# Altium schematic symbol library OSHW_LuxonisMaster_20201223.SchLib: 185 symbols (part 2 of 10)
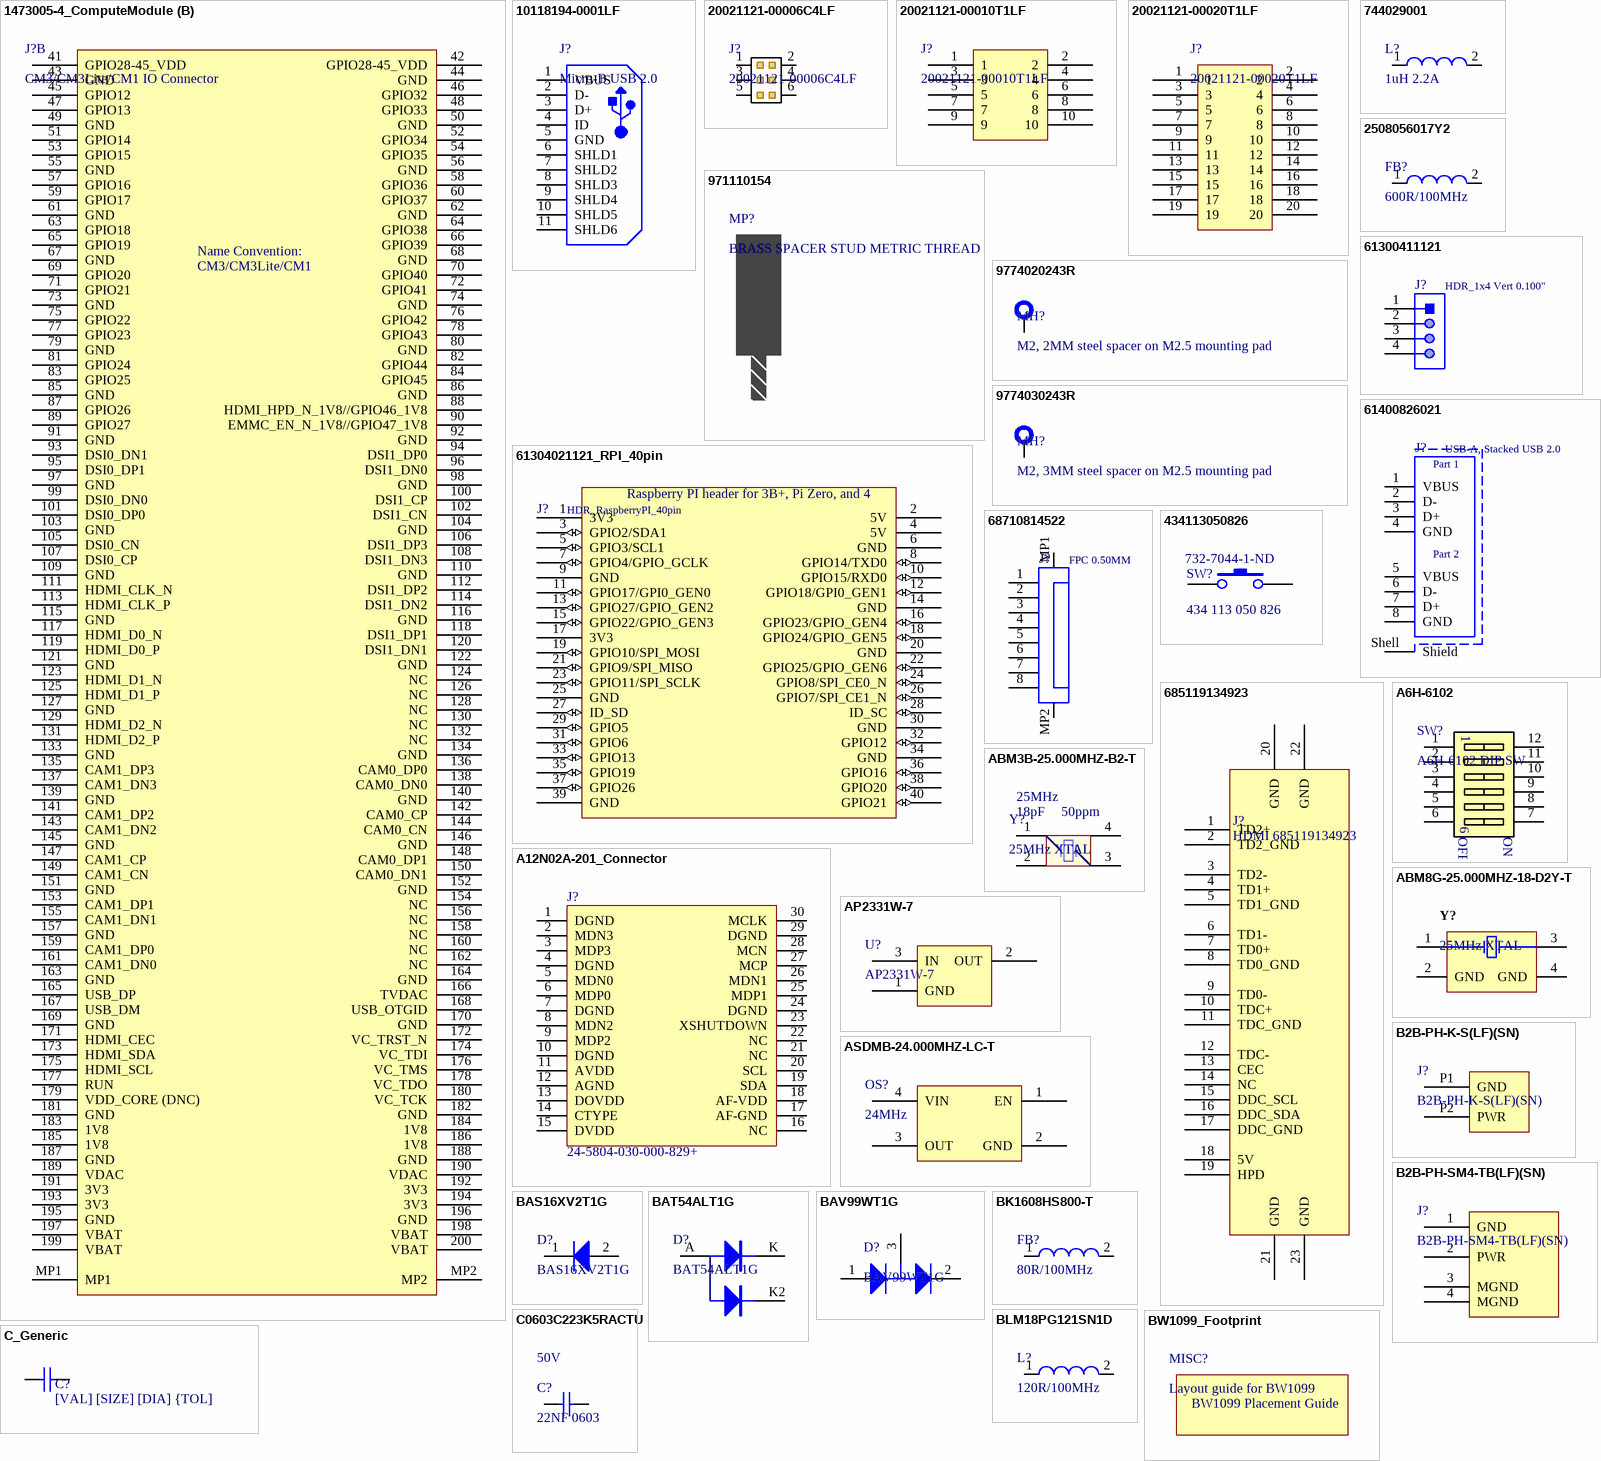
[diagram p8: symbols 1473005-4_ComputeModule to C_Generic]

## 2508056017Y2
designator FB?, comment 600R/100MHz
FERRITE BEAD, 0.1OHM, 2A, 0805, 600R/100MHz; Manufacturer 1: Fair-Rite; Manufacturer Part Number 1: 2508056017Y2; Impedance: 600R; Tolerance: 25%; Resistance: 350mR; DC Resistance (DCR): 100mR; Test Frequency: 100MHz; Supplier 1: Digi-Key; Stock 1: 100491; Pricing 1: 1=0.10000, 10=0.07900, 25=0.07120, 50=0.05240, 100=0.04520, 250=0.03568, 500=0.03014, 1000=0.02538 (USD); RoHS: Yes; Case/Package: 0805; Number of Pins: 2; Case Code (Metric): 2012; Case Code (Imperial): 0805; Min Operating Temperature: -55°C; Max Operating Temperature: 125°C; Package Quantity: 4000; Packaging: Tape and Reel; Max DC Current: 2A; Termination: SMD/SMT; Military Standard: Not; DC Current: 2A; Current Rating: 2A; Frequency: 100MHz; Length: 2mm; Height: 0.9mm; Width: 1.25mm; Depth: 1.25mm; Radiation Hardening: No; REACH SVHC: No SVHC; ComponentLink1URL: https://datasheet.ciiva.com/3854/3802508056017y2-3854245.pdf?src-supplier=Arrow; ComponentLink1Description: https://datasheet.ciiva.com/3854/3802508056017y2-3854245.pdf?src-supplier=Arrow; ComponentLink2URL: https://datasheet.ciiva.com/22735/652149-22735047.pdf?src-supplier=Element14; ComponentLink2Description: https://datasheet.ciiva.com/22735/652149-22735047.pdf?src-supplier=Element14; ComponentLink3URL: https://datasheet.ciiva.com/1127/26143-1127514.pdf?src-supplier=Farnell; ComponentLink3Description: https://datasheet.ciiva.com/1127/26143-1127514.pdf?src-supplier=Farnell; ComponentLink4URL: https://datasheet.ciiva.com/18090/getdatasheetpartid-212640-18090187.pdf?src-supplier=Verical; ComponentLink4Description: https://datasheet.ciiva.com/18090/getdatasheetpartid-212640-18090187.pdf?src-supplier=Verical; ComponentLink5URL: https://datasheet.ciiva.com/7620/26143-7620140.pdf?src-supplier=Element14; ComponentLink5Description: https://datasheet.ciiva.com/7620/26143-7620140.pdf?src-supplier=Element14; Supplier Part Number 1: 1934-1487-1-ND
footprint 2508056017Y2 (2508056017Y2 Chip Inductor, 2-Leads, Body 2.00x1.25mm)
pins: 1, 2

## 9774020243R
designator MH?, comment M2, 2MM steel spacer on M2.5 mounting pad
ROUND STANDOFF M2X0.4 STEEL 2MM; Manufacturer 1: Wurth Electronics; Manufacturer Part Number 1: 9774020243R; Plating: Tin; Threaded/Unthreaded: Threaded; Outside Diameter: 0.171inch; Supplier 1: Digi-Key; Stock 1: 1996; Pricing 1: 1=1.09000, 10=1.03000, 50=0.91800, 100=0.84000, 500=0.78400 (USD); RoHS: Yes; Material: Steel; Length: 0.134inch; REACH SVHC: Unknown; ComponentLink1URL: https://media.digikey.com/pdf/Data%20Sheets/Wurth%20Electronics%20PDFs/WA-SMSx_Performance_Flyer.pdf?src-supplier=Digi-Key; ComponentLink1Description: https://media.digikey.com/pdf/Data%20Sheets/Wurth%20Electronics%20PDFs/WA-SMSx_Performance_Flyer.pdf?src-supplier=Digi-Key; ComponentLink2URL: http://www.mouser.com/ds/2/445/9774020243R-611427.pdf?src-supplier=Mouser; ComponentLink2Description: http://www.mouser.com/ds/2/445/9774020243R-611427.pdf?src-supplier=Mouser; ComponentLink3URL: http://www.farnell.com/datasheets/1960363.pdf?src-supplier=Farnell; ComponentLink3Description: http://www.farnell.com/datasheets/1960363.pdf?src-supplier=Farnell; ComponentLink4URL: http://www.farnell.com/datasheets/1960363.pdf?src-supplier=Element14; ComponentLink4Description: http://www.farnell.com/datasheets/1960363.pdf?src-supplier=Element14; Supplier 2: Mouser; Supplier 3: Farnell; Supplier Part Number 1: 732-7073-1-ND; Supplier Part Number 2: 710-9774020243R; Supplier Part Number 3: 2497594
footprint 9774020243R w/ bottom pad (STANDOFF_M2X0.4_2MM has bottom pad)
pins: 1

## 9774030243R
designator MH?, comment M2, 3MM steel spacer on M2.5 mounting pad
MP ROUND STANDOFF M2X0.4 STEEL 3MM; Manufacturer 1: Wurth Electronics; Manufacturer Part Number 1: 9774030243R; Plating: Tin; Threaded/Unthreaded: Threaded; Outside Diameter: 0.171inch; Supplier 1: Digi-Key; Stock 1: 20568; Pricing 1: 1=0.95000, 10=0.91800, 50=0.79500, 100=0.73900 (USD); RoHS: Yes; Material: Steel; Length: 0.173inch; REACH SVHC: Unknown; ComponentLink1URL: http://www.mouser.com/ds/2/445/9774030243R-611455.pdf?src-supplier=Mouser; ComponentLink1Description: http://www.mouser.com/ds/2/445/9774030243R-611455.pdf?src-supplier=Mouser; ComponentLink2URL: http://www.farnell.com/datasheets/1960368.pdf?src-supplier=Farnell; ComponentLink2Description: http://www.farnell.com/datasheets/1960368.pdf?src-supplier=Farnell; ComponentLink3URL: https://katalog.we-online.de/em/datasheet/9774030243R.pdf?src-supplier=Digi-Key; ComponentLink3Description: https://katalog.we-online.de/em/datasheet/9774030243R.pdf?src-supplier=Digi-Key; ComponentLink4URL: http://www.farnell.com/datasheets/1960368.pdf?src-supplier=Newark; ComponentLink4Description: http://www.farnell.com/datasheets/1960368.pdf?src-supplier=Newark; ComponentLink5URL: http://www.farnell.com/datasheets/1960368.pdf?src-supplier=Element14; ComponentLink5Description: http://www.farnell.com/datasheets/1960368.pdf?src-supplier=Element14; Supplier Part Number 1: 732-7085-1-ND; Supplier 2: Mouser; Supplier Part Number 2: 710-9774030243R; Supplier 3: Element14; Supplier Part Number 3: 2497599
footprint 9774030243R (STANDOFF_M2X0.4_3MM)
footprint 9774030243R w/ bottom pad (STANDOFF_M2X0.4_3MM has bottom pad)
pins: 1

## 61300411121
designator J?, comment HDR_1x4 Vert 0.100"
CONN HEADER VERT 4POS 2.54MM  Connector Header Through Hole 4 position 0.100" (2.54mm); Manufacturer 1: Wurth Electronics; Manufacturer Part Number 1: 61300411121; Number of Positions: 4; Gender: Male; Connector Type: Male Pin; Pitch: 0.1inch; Supplier 1: Digi-Key; Stock 1: 19594; Pricing 1: 1=0.18000, 10=0.15300, 25=0.12720, 50=0.10600, 100=0.09600, 1000=0.08800 (USD); RoHS: Yes; Mount: Through Hole; Contact Plating: Gold; Contact Material: Copper; Color: Black; Number of Rows: 1; Packaging: Bulk; Termination: Solder; Number of Contacts: 4; Contact Mating Length: 0.236inch; REACH SVHC: Unknown; Lead Free: Lead Free; ComponentLink1URL: http://www.farnell.com/cad/1737268.pdf?src-supplier=Element14; ComponentLink1Description: http://www.farnell.com/cad/1737268.pdf?src-supplier=Element14; ComponentLink2URL: https://katalog.we-online.de/em/datasheet/6130xx11121.pdf?src-supplier=Digi-Key; ComponentLink2Description: https://katalog.we-online.de/em/datasheet/6130xx11121.pdf?src-supplier=Digi-Key; Supplier Part Number 1: 732-5317-ND
footprint 61300411121 (Pin Header, pitch 2.54 mm, THT, Vertical, single row, 4p)
pins: 1, 2, 3, 4

## 61304021121_RPI_40pin
designator J?, comment HDR_RaspberryPI_40pin
CONN HEADER VERT 40POS 2.54MM THT HDR_RaspberryPI_40pin; Manufacturer: Wurth Elektronik; Part Number: 61304021121; Manufacturer 1: Wurth Electronics; Contact Resistance: 20mOhm; Row Number: Dual; Pin Number: 40; Withstanding Voltage: 500VAC; Gender: Male; Rated Current: 3A; Working Voltage: 250VAC; Connector Type: Male Pin; Row Spacing: 0.1inch; Operating Temperature: -40to105degC; Manufacturer URL: http://www.we-online.de; Orientation: Vertical; Pitch: 2.54mm; Datasheet URL: https://katalog.we-online.de/em/datasheet/6130xx21121.pdf; Package Reference: 61304021121; Packaging: Bag; Mounting Technology: THT; Publisher: WurthElektronik; Supplier 1: Digi-Key; Manufacturer Part Number 1: 61304021121; Stock 1: 969; Pricing 1: 1=1.89000, 10=1.60200, 25=1.33520, 50=1.11300, 100=1.01200, 500=0.92000 (USD); RoHS: Yes; Mount: Through Hole; Contact Plating: Gold; Contact Material: Copper; Color: Black; Number of Rows: 2; Number of Positions: 40; Termination: Solder; Number of Contacts: 40; Contact Mating Length: 0.236inch; REACH SVHC: Unknown; ComponentLink1URL: http://www.farnell.com/datasheets/1442180.pdf?src-supplier=Farnell; ComponentLink1Description: http://www.farnell.com/datasheets/1442180.pdf?src-supplier=Farnell; ComponentLink2URL: http://www.farnell.com/datasheets/1442180.pdf?src-supplier=Element14; ComponentLink2Description: http://www.farnell.com/datasheets/1442180.pdf?src-supplier=Element14; ComponentLink3URL: http://www.farnell.com/datasheets/1442180.pdf?src-supplier=Newark; ComponentLink3Description: http://www.farnell.com/datasheets/1442180.pdf?src-supplier=Newark; ComponentLink4URL: https://katalog.we-online.de/em/datasheet/6130xx21121.pdf?src-supplier=Digi-Key; ComponentLink4Description: https://katalog.we-online.de/em/datasheet/6130xx21121.pdf?src-supplier=Digi-Key; Supplier Part Number 1: 732-5310-ND; Supplier 2: Newark; Supplier 3: Mouser; Supplier 4: Farnell; Supplier 5: Element14; Supplier Part Number 2: 20X1011; Supplier Part Number 3: 710-61304021121; Supplier Part Number 4: 2356148; Supplier Part Number 5: 2356148
footprint 61304021121 (Pin Header, pitch 2.54 mm, THT, Vertical, dual row, 40p)
pins: 1 3V3, 2 5V, 3 GPIO2/SDA1 (io), 4 5V, 5 GPIO3/SCL1 (io), 6 GND, 7 GPIO4/GPIO_GCLK (io), 8 GPIO14/TXD0 (io), 9 GND, 10 GPIO15/RXD0 (io), 11 GPIO17/GPI0_GEN0 (io), 12 GPIO18/GPI0_GEN1 (io), 13 GPIO27/GPIO_GEN2 (io), 14 GND, 15 GPIO22/GPIO_GEN3 (io), 16 GPIO23/GPIO_GEN4 (io), 17 3V3, 18 GPIO24/GPIO_GEN5 (io), 19 GPIO10/SPI_MOSI (io), 20 GND, 21 GPIO9/SPI_MISO (io), 22 GPIO25/GPIO_GEN6 (io), 23 GPIO11/SPI_SCLK (io), 24 GPIO8/SPI_CE0_N (io), 25 GND, 26 GPIO7/SPI_CE1_N (io), 27 ID_SD (io), 28 ID_SC (io), 29 GPIO5 (io), 30 GND, 31 GPIO6 (io), 32 GPIO12 (io), 33 GPIO13 (io), 34 GND, 35 GPIO19 (io), 36 GPIO16 (io), 37 GPIO26 (io), 38 GPIO20 (io), 39 GND, 40 GPIO21 (io)
text: Raspberry PI header for 3B+, Pi Zero, and 4

## 61400826021
designator J?, comment USB-A, Stacked USB 2.0
CONN RCPT USB2.0 TYPEA STACK R/A USB - A, Stacked USB 2.0 Receptacle Connector 8 Position Through Hole, Right Angle; Manufacturer 1: Wurth Electronics; Manufacturer Part Number 1: 61400826021; Gender: Female; Connector Type: USB,Socket; Number of Ports: 2; Number of Contacts: 8; Current Rating: 1A; Voltage Rating: 30V; Insulation Resistance: 1GR; Supplier 1: Digi-Key; Stock 1: 7536; Pricing 1: 1=1.98000, 10=1.74700, 50=1.64600, 100=1.47800, 250=1.34400 (USD); RoHS: Yes; Mount: Through Hole,Horizontal; Contact Plating: Gold; Contact Material: Copper Alloy; Color: White; Min Operating Temperature: -40°C; Max Operating Temperature: 105°C; Packaging: Tray; Package Quantity: 100; Termination: Solder; Orientation: Vertical; Number of Positions: 8; USB Standard: USB 2.0; Length: 15.34mm; Width: 17mm; REACH SVHC: Unknown; Flammability Rating: UL94 V-0; ComponentLink1URL: https://datasheet.ciiva.com/1098/1442185-1098931.pdf?src-supplier=Element14; ComponentLink1Description: https://datasheet.ciiva.com/1098/1442185-1098931.pdf?src-supplier=Element14; ComponentLink2URL: https://datasheet.ciiva.com/6743/61400826021-6743655.pdf?src-supplier=Newark; ComponentLink2Description: https://datasheet.ciiva.com/6743/61400826021-6743655.pdf?src-supplier=Newark; ComponentLink3URL: https://datasheet.ciiva.com/4598/61400826021-88262-4598792.pdf?src-supplier=Mouser; ComponentLink3Description: https://datasheet.ciiva.com/4598/61400826021-88262-4598792.pdf?src-supplier=Mouser; ComponentLink4URL: https://datasheet.ciiva.com/11731/0900766b81023ab8-11731306.pdf?src-supplier=RSComponents; ComponentLink4Description: https://datasheet.ciiva.com/11731/0900766b81023ab8-11731306.pdf?src-supplier=RSComponents; Supplier Part Number 1: 732-2107-ND
footprint 61400826021 (USB 2.0 Type A Horizontal Dual Stacked)
pins: 1 VBUS, 2 D-, 3 D+, 4 GND, 5 VBUS, 6 D-, 7 D+, 8 GND, Shell Shield
text: Part 1; Part 2

## 68710814522
designator J?, comment FPC 0.50MM
CONN FPC BOTTOM 8POS 0.50MM R/A 8 Position FPC Connector Contacts, Bottom 0.020" (0.50mm) Surface Mount, Right Angle; Manufacturer 1: Wurth Electronics; Manufacturer Part Number 1: 68710814522; Actuator Material: Polymer,Liquid Crystal Polymer; Current Rating: 500mA; Voltage Rating: 50V; Number of Positions: 8; Insulation Resistance: 100MR; Gender: Male; Pitch: 0.5mm; Supplier 1: Digi-Key; Stock 1: 1995; Pricing 1: 1=1.03000, 10=0.99100, 50=0.92300, 100=0.85400, 500=0.78600, 1000=0.71800 (USD); RoHS: Yes; Mount: Surface Mount; Contact Material: Bronze,Tin; Contact Plating: Tin; Housing Material: Liquid Crystal Polymer; Min Operating Temperature: -25°C; Max Operating Temperature: 85°C; Number of Rows: 1; Packaging: Tape and Reel; Package Quantity: 2000; Contact Location: Bottom; Termination: SMD/SMT; Number of Contacts: 8; Orientation: Straight; Length: 10.4mm; Width: 2.1mm; REACH SVHC: Unknown; Flammability Rating: UL94 V-0; ComponentLink1URL: https://datasheet.ciiva.com/670/6871xx14522-670726.pdf?src-supplier=Digi-Key; ComponentLink1Description: https://datasheet.ciiva.com/670/6871xx14522-670726.pdf?src-supplier=Digi-Key; ComponentLink2URL: https://datasheet.ciiva.com/670/6871xx14522-670727.pdf?src-supplier=Digi-Key; ComponentLink2Description: https://datasheet.ciiva.com/670/6871xx14522-670727.pdf?src-supplier=Digi-Key; ComponentLink3URL: https://datasheet.ciiva.com/670/6871xx14522-670728.pdf?src-supplier=Digi-Key; ComponentLink3Description: https://datasheet.ciiva.com/670/6871xx14522-670728.pdf?src-supplier=Digi-Key; ComponentLink4URL: https://datasheet.ciiva.com/14153/6871xx14522-eng-datasheet-14153886.pdf?src-supplier=Distrelec; ComponentLink4Description: https://datasheet.ciiva.com/14153/6871xx14522-eng-datasheet-14153886.pdf?src-supplier=Distrelec; ComponentLink5URL: https://datasheet.ciiva.com/29318/709082-da-01-en-smd-zif-stecker-90grad-kontakte-unten-8-29318044.pdf?src-supplier=Conrad; ComponentLink5Description: https://datasheet.ciiva.com/29318/709082-da-01-en-smd-zif-stecker-90grad-kontakte-unten-8-29318044.pdf?src-supplier=Conrad; Supplier Part Number 1: 732-2011-1-ND
footprint 68710814522 (ZIF Connectors, Horizontal, Bottom Contact, pitch 0.5mm, 8p)
pins: 1, 2, 3, 4, 5, 6, 7, 8, MP1, MP2

## 434113050826
designator SW?, comment 434 113 050 826  Supplier Part Number 1: 732-7044-1-ND
SWITCH TACTILE SPST-NO 0.05A 12V Tactile Switch SPST-NO Top Actuated Surface Mount; MAN: Wurth; DIST: Farnell; DIST PN: 1868029; ICCO PN: M1V00020; MAN PN: 434 113 050 826; Supplier 1: Digi-Key
footprint DTSM32N
pins: 1, 2

## 685119134923
designator J?, comment HDMI 685119134923
CONN RCPT HDMI 19POS SMD R/A; Manufacturer 1: Wurth Electronics; Body Material: Plastic; Gender: Receptacle; Connector Type: HDMI,Socket; Number of Contacts: 19; Manufacturer Part Number 1: 685119134923; Supplier 1: Digi-Key; Stock 1: 3955; Pricing 1: 1=2.36000, 10=2.33000, 50=2.11100, 100=1.89300 (USD); RoHS: Yes; Mount: Surface Mount,Horizontal; Contact Material: Bronze; Color: Black; Package Quantity: 250; Packaging: Tape and Reel; Termination: SMD/SMT; Orientation: Right Angle; Features: Shielded; Number of Positions: 19; Length: 12.15mm; Height: 5.55mm; Width: 15mm; REACH SVHC: Unknown; ComponentLink1URL: https://datasheet.ciiva.com/851/685119134923-851552.pdf?src-supplier=Digi-Key; ComponentLink1Description: https://datasheet.ciiva.com/851/685119134923-851552.pdf?src-supplier=Digi-Key; ComponentLink2URL: https://datasheet.ciiva.com/5053/685119134923-63804-5053219.pdf?src-supplier=Mouser; ComponentLink2Description: https://datasheet.ciiva.com/5053/685119134923-63804-5053219.pdf?src-supplier=Mouser; ComponentLink3URL: https://datasheet.ciiva.com/1095/638362-1095543.pdf?src-supplier=Newark; ComponentLink3Description: https://datasheet.ciiva.com/1095/638362-1095543.pdf?src-supplier=Newark; ComponentLink4URL: https://datasheet.ciiva.com/851/685119134923-851553.pdf?src-supplier=Digi-Key; ComponentLink4Description: https://datasheet.ciiva.com/851/685119134923-851553.pdf?src-supplier=Digi-Key; ComponentLink5URL: https://datasheet.ciiva.com/1094/638362-1094939.pdf?src-supplier=Element14; ComponentLink5Description: https://datasheet.ciiva.com/1094/638362-1094939.pdf?src-supplier=Element14; ComponentLink6URL: https://datasheet.ciiva.com/14118/4257090-eng-datasheet-14118205.pdf?src-supplier=Distrelec; ComponentLink6Description: https://datasheet.ciiva.com/14118/4257090-eng-datasheet-14118205.pdf?src-supplier=Distrelec; Supplier 2: Newark; Supplier 3: Mouser; Supplier Part Number 2: 13T9717; Supplier Part Number 3: 710-685119134923; Supplier Part Number 1: 732-2737-1-ND
footprint 685119134923 (HDMI  Receptacle Connector 19 Position Surface Mount, Right Angle; Through Hole)
pins: 1 TD2+, 2 TD2_GND, 3 TD2-, 4 TD1+, 5 TD1_GND, 6 TD1-, 7 TD0+, 8 TD0_GND, 9 TD0-, 10 TDC+, 11 TDC_GND, 12 TDC-, 13 CEC, 14 NC, 15 DDC_SCL, 16 DDC_SDA, 17 DDC_GND, 18 5V, 19 HPD, 20 GND, 21 GND, 22 GND, 23 GND
2 alternate drawings of the same symbol

## A6H-6102
designator SW?, comment A6H-6102 DIP SW
SWITCH SLIDE DIP SPST 25MA 24V (SEALED); Manufacturer 1: Omron; Mechanical Life: 1000Cycles; Contact Resistance: 200mR; Number of Positions: 6; Actuator Type: Slide (Standard); Number of Poles: 4; Pitch: 0.05inch; Actuator Length: 0mm; Washable: Yes; Supplier 1: Digi-Key; Manufacturer Part Number 1: A6H-6102; Stock 1: 3953; Pricing 1: 1=2.66000, 10=2.57900, 25=2.44640, 50=2.28700, 100=2.23380, 250=1.91468, 500=1.86148, 1000=1.59555, 5000=1.46259 (USD); RoHS: Yes; Mount: Surface Mount; Case/Package: DIP; Weight: 0.12g; Min Operating Temperature: -20°C; Max Operating Temperature: 70°C; Voltage Rating (DC): 24V; Throw Configuration: SPST; Packaging: Rail/Tube; Max Current Rating: 25mA; Termination: Gull Wing; Orientation: Straight; Max Voltage Rating (DC): 24V; Current Rating: 25mA; Package Quantity: 54; Electrical Life: 1000Cycles; Number of Circuits: 6; Length: 0.348inch; Height: 1.55mm; Terminal Pitch: 1.27mm; Depth: 6.7mm; Width: 4.5mm; Radiation Hardening: No; REACH SVHC: Unknown; ComponentLink1URL: https://datasheet.ciiva.com/26883/getdatasheetpartid-744653-26883354.pdf?src-supplier=Verical; ComponentLink1Description: https://datasheet.ciiva.com/26883/getdatasheetpartid-744653-26883354.pdf?src-supplier=Verical; ComponentLink2URL: https://datasheet.ciiva.com/2864/a6h-1110-2864768.pdf?src-supplier=Digi-Key; ComponentLink2Description: https://datasheet.ciiva.com/2864/a6h-1110-2864768.pdf?src-supplier=Digi-Key; ComponentLink3URL: https://datasheet.ciiva.com/1529/611565-1529044.pdf?src-supplier=Element14; ComponentLink3Description: https://datasheet.ciiva.com/1529/611565-1529044.pdf?src-supplier=Element14; ComponentLink4URL: https://datasheet.ciiva.com/16198/a6h-1110-16198863.pdf?src-supplier=Onlinecomponents.com; ComponentLink4Description: https://datasheet.ciiva.com/16198/a6h-1110-16198863.pdf?src-supplier=Onlinecomponents.com; Supplier 2: Mouser; Supplier 3: Farnell; Supplier Part Number 2: 653-A6H-6102; Supplier Part Number 1: SW1117-ND; Supplier Part Number 3: 1829491
footprint A6H-610x (DIP Sw, Std/SealTape Body 8.85x4.50mm, Pitch 1.27mm, IPC High Density)
pins: 1, 2, 3, 4, 5, 6, 7, 8, 9, 10, 11, 12
text: OFF; ON

## A12N02A-201_Connector
designator J?, comment 24-5804-030-000-829+
CONN Series 5804 board to board 0.4mm pitch 30 way connector; Manufacturer 1: Kyocera International Electronic Components; Manufacturer Part Number 1: 245804030000829+; MAN: AVX/KYOCERA; MAN PN: 24-5804-030-000-829+; Supplier 1: Digi-Key; Stock 1: 11469; Pricing 1: 1=1.69000, 10=1.53600, 25=1.44200, 50=1.37940, 100=1.31670, 250=1.19132, 500=1.09726, 1000=0.94050 (USD); RoHS: Yes; ComponentLink1URL: http://global.kyocera.com/prdct/electro/product/pdf/5804.pdf?src-supplier=Digi-Key; ComponentLink1Description: http://global.kyocera.com/prdct/electro/product/pdf/5804.pdf?src-supplier=Digi-Key; Supplier Part Number 1: 478-12013-1-ND
footprint A12N02A-201 (connector: 24-5804-030-000-829+)
footprint A12N02A-201_1MMBRD_MatedModule (connector: 24-5804-030-000-829+ (1.4mm height w/ module mated))
footprint A12N02A-201_1.6mmbrd_MatedModule (connector: 24-5804-030-000-829+ (1.4mm height w/ module mated))
pins: 1 DGND, 2 MDN3, 3 MDP3, 4 DGND, 5 MDN0, 6 MDP0, 7 DGND, 8 MDN2, 9 MDP2, 10 DGND, 11 AVDD, 12 AGND, 13 DOVDD, 14 CTYPE, 15 DVDD, 16 NC, 17 AF-GND, 18 AF-VDD, 19 SDA, 20 SCL, 21 NC, 22 NC, 23 XSHUTDOWN, 24 DGND, 25 MDP1, 26 MDN1, 27 MCP, 28 MCN, 29 DGND, 30 MCLK

## ABM3B-25.000MHZ-B2-T
designator Y?, comment 25MHz XTAL  Frequency Stability: 50ppm  Load Capacitance: 18pF  Frequency: 25MHz
CRYSTAL 25.0000MHZ 18PF SMD; Manufacturer 1: Abracon; Manufacturer Part Number 1: ABM3B-25.000MHZ-B2-T; Frequency Tolerance: 20ppm; ESR (Equivalent Series Resistance): 50R; Insulation Resistance: 500MR; RoHS: Yes; Case/Package: CSMD; Number of Pins: 4; Min Operating Temperature: -20°C; Max Operating Temperature: 70°C; Packaging: Tape and Reel; Package Quantity: 1000; Tolerance: 20ppm; Termination: SMD/SMT; Composition: Ceramic; Series Resistance: 50R; Accuracy: 20ppm; Length: 5mm; Height: 0.043inch; Width: 0.126inch; Depth: 3.2mm; Radiation Hardening: No; Lead Free: Lead Free; REACH SVHC: No SVHC; ComponentLink1URL: https://datasheet.ciiva.com/15116/getdatasheetpartid-723823-15116858.pdf?src-supplier=Verical; ComponentLink1Description: https://datasheet.ciiva.com/15116/getdatasheetpartid-723823-15116858.pdf?src-supplier=Verical; ComponentLink2URL: https://datasheet.ciiva.com/855/abm3b-855689.pdf?src-supplier=Digi-Key; ComponentLink2Description: https://datasheet.ciiva.com/855/abm3b-855689.pdf?src-supplier=Digi-Key; ComponentLink3URL: https://datasheet.ciiva.com/22735/1883675-22735145.pdf?src-supplier=Element14; ComponentLink3Description: https://datasheet.ciiva.com/22735/1883675-22735145.pdf?src-supplier=Element14; ComponentLink4URL: https://datasheet.ciiva.com/855/abm3b-855690.pdf?src-supplier=Digi-Key; ComponentLink4Description: https://datasheet.ciiva.com/855/abm3b-855690.pdf?src-supplier=Digi-Key; ComponentLink5URL: https://datasheet.ciiva.com/855/abm3b-855691.pdf?src-supplier=Digi-Key; ComponentLink5Description: https://datasheet.ciiva.com/855/abm3b-855691.pdf?src-supplier=Digi-Key; ComponentLink6URL: https://datasheet.ciiva.com/3174/abm3b-3174285.pdf?src-supplier=Avnet; ComponentLink6Description: https://datasheet.ciiva.com/3174/abm3b-3174285.pdf?src-supplier=Avnet; ComponentLink7URL: https://datasheet.ciiva.com/4945/abm3b-39910-4945502.pdf?src-supplier=Mouser; ComponentLink7Description: https://datasheet.ciiva.com/4945/abm3b-39910-4945502.pdf?src-supplier=Mouser; ComponentLink8URL: https://datasheet.ciiva.com/7998/1883675-7998606.pdf?src-supplier=Element14; ComponentLink8Description: https://datasheet.ciiva.com/7998/1883675-7998606.pdf?src-supplier=Element14; ComponentLink9URL: https://datasheet.ciiva.com/16208/abm3b-16208639.pdf?src-supplier=Future+Electronics; ComponentLink9Description: https://datasheet.ciiva.com/16208/abm3b-16208639.pdf?src-supplier=Future+Electronics; Supplier 1: Digi-Key; Stock 1: 62537; Pricing 1: 1=1.09000, 10=0.96100, 50=0.89880, 100=0.79420, 500=0.75240 (USD); Supplier Part Number 1: 535-9128-1-ND
footprint Q2520
pins: 1 OSC1, 2, 3 OSC3, 4

## ABM8G-25.000MHZ-18-D2Y-T
designator Y?, comment 25MHz XTAL
CRYSTAL 25.0000MHZ 18PF SMD; Manufacturer 1: Abracon; Manufacturer Part Number 1: ABM8G-25.000MHZ-18-D2Y-T; ESR (Equivalent Series Resistance): 60R; Frequency Tolerance: 20ppm; Frequency Stability: 30ppm; Supplier 1: Digi-Key; Stock 1: 67771; Pricing 1: 1=0.65000, 10=0.54400, 50=0.49000, 100=0.43560, 500=0.41378 (USD); RoHS: Yes; Mount: Surface Mount; Case/Package: CSMD; Number of Pins: 4; Min Operating Temperature: -40°C; Max Operating Temperature: 85°C; Frequency: 25MHz; Load Capacitance: 18pF; Packaging: Tape and Reel; Package Quantity: 1000; Tolerance: 20ppm; Termination: SMD/SMT; Series Resistance: 60R; Length: 3.2mm; Height: 0.039inch; Width: 2.5mm; Depth: 2.5mm; Radiation Hardening: No; REACH SVHC: Unknown; Lead Free: Lead Free; ComponentLink1URL: https://datasheet.ciiva.com/15116/getdatasheetpartid-719795-15116706.pdf?src-supplier=Verical; ComponentLink1Description: https://datasheet.ciiva.com/15116/getdatasheetpartid-719795-15116706.pdf?src-supplier=Verical; ComponentLink2URL: https://datasheet.ciiva.com/28508/1883677-28508583.pdf?src-supplier=Element14; ComponentLink2Description: https://datasheet.ciiva.com/28508/1883677-28508583.pdf?src-supplier=Element14; ComponentLink3URL: https://datasheet.ciiva.com/860/abm8g-860745.pdf?src-supplier=Digi-Key; ComponentLink3Description: https://datasheet.ciiva.com/860/abm8g-860745.pdf?src-supplier=Digi-Key; ComponentLink4URL: https://datasheet.ciiva.com/860/abm8g-860746.pdf?src-supplier=Digi-Key; ComponentLink4Description: https://datasheet.ciiva.com/860/abm8g-860746.pdf?src-supplier=Digi-Key; ComponentLink5URL: https://datasheet.ciiva.com/7998/abm8-7998634.pdf?src-supplier=Element14; ComponentLink5Description: https://datasheet.ciiva.com/7998/abm8-7998634.pdf?src-supplier=Element14; ComponentLink6URL: https://datasheet.ciiva.com/860/abm8g-860747.pdf?src-supplier=Digi-Key; ComponentLink6Description: https://datasheet.ciiva.com/860/abm8g-860747.pdf?src-supplier=Digi-Key; ComponentLink7URL: https://datasheet.ciiva.com/3176/abm8g-3176077.pdf?src-supplier=Avnet; ComponentLink7Description: https://datasheet.ciiva.com/3176/abm8g-3176077.pdf?src-supplier=Avnet; ComponentLink8URL: https://datasheet.ciiva.com/1357/1883677-1357279.pdf?src-supplier=Element14; ComponentLink8Description: https://datasheet.ciiva.com/1357/1883677-1357279.pdf?src-supplier=Element14; Supplier Part Number 1: 535-10275-1-ND
pins: 1 X1, 2 GND (power), 3 X2, 4 GND (power)

## AP2331W-7
designator U?
LOAD SWITCH SC59; Manufacturer 1: Diodes; Number of Outputs: 1; Output Current: 200mA; Max Supply Voltage: 5.2V; Min Supply Voltage: 2.7V; Interface: On/Off; On-State Resistance: 350mR; Turn-On Delay Time: 700us; Fault Protection: Over Temperature,Reverse Current; Output Configuration: High Side; Supplier 1: Digi-Key; Manufacturer Part Number 1: AP2331W-7; Stock 1: 5467; Pricing 1: 1=0.40000, 10=0.34100, 100=0.23660, 500=0.19110, 1000=0.14105 (USD); RoHS: Yes; Mount: Surface Mount; Case/Package: TO-236-3; Number of Pins: 59; Min Operating Temperature: -40°C; Max Operating Temperature: 85°C; Package Quantity: 3000; Packaging: Tape and Reel; Max Output Current: 200mA; Voltage: 5.2V; Current: 200mA; Length: 3.1mm; Height: 1.3mm; Width: 1.7mm; Radiation Hardening: No; REACH SVHC: No SVHC; ComponentLink1URL: https://datasheet.ciiva.com/18567/ap2331-18567929.pdf?src-supplier=Digi-Key; ComponentLink1Description: https://datasheet.ciiva.com/18567/ap2331-18567929.pdf?src-supplier=Digi-Key; ComponentLink2URL: https://datasheet.ciiva.com/18567/ap2331-18567928.pdf?src-supplier=Digi-Key; ComponentLink2Description: https://datasheet.ciiva.com/18567/ap2331-18567928.pdf?src-supplier=Digi-Key; ComponentLink3URL: https://datasheet.ciiva.com/18567/ap2331-18567930.pdf?src-supplier=Digi-Key; ComponentLink3Description: https://datasheet.ciiva.com/18567/ap2331-18567930.pdf?src-supplier=Digi-Key; Supplier 2: Mouser; Supplier 3: Arrow; Supplier Part Number 2: 621-AP2331W-7; Supplier Part Number 1: AP2331W-7DICT-ND; Supplier Part Number 3: AP2331W-7
footprint AP2331W-7
pins: 1 GND, 2 OUT, 3 IN

## ASDMB-24.000MHZ-LC-T
designator OS?, comment 24MHz
MEMS OSC XO 24.0000MHZ LVCMOS 24MHz XO (Standard) LVCMOS Oscillator 1.8V ~ 3.3V Standby (Power Down) 4-SMD, No Lead; Manufacturer 1: Abracon; Manufacturer Part Number 1: ASDMB-24.000MHZ-LC-T; Load Capacitance: 15pF; Max Supply Voltage: 4V; Min Supply Voltage: -300mV; Max Supply Current: 16mA; Frequency Stability: 50ppm; RoHS: Yes; Mount: Surface Mount; Case/Package: SMD/SMT; Number of Pins: 4; Min Operating Temperature: -40°C; Max Operating Temperature: 85°C; Frequency: 24MHz; Packaging: Tape and Reel; Operating Supply Voltage: 3.3V; Termination: SMD/SMT; Length: 0.098inch; Height: 0.035inch; Width: 0.079inch; Radiation Hardening: No; Lead Free: Lead Free; REACH SVHC: No SVHC; ComponentLink1URL: https://datasheet.ciiva.com/868/asdmb-868258.pdf?src-supplier=Digi-Key; ComponentLink1Description: https://datasheet.ciiva.com/868/asdmb-868258.pdf?src-supplier=Digi-Key; ComponentLink2URL: https://datasheet.ciiva.com/868/asdmb-868259.pdf?src-supplier=Digi-Key; ComponentLink2Description: https://datasheet.ciiva.com/868/asdmb-868259.pdf?src-supplier=Digi-Key; ComponentLink3URL: https://datasheet.ciiva.com/868/asdmb-868260.pdf?src-supplier=Digi-Key; ComponentLink3Description: https://datasheet.ciiva.com/868/asdmb-868260.pdf?src-supplier=Digi-Key; ComponentLink4URL: https://datasheet.ciiva.com/3178/asdmb-3178841.pdf?src-supplier=Avnet; ComponentLink4Description: https://datasheet.ciiva.com/3178/asdmb-3178841.pdf?src-supplier=Avnet; Supplier 1: Digi-Key; Stock 1: 165072; Pricing 1: 1=1.28000, 10=1.13400, 50=1.05960, 100=0.93640, 500=0.88712 (USD); Supplier Part Number 1: 535-11728-1-ND; Supplier 2: Mouser; Supplier 3: Newark; Supplier Part Number 2: 815-ASDMB-24MHZ-LC; Supplier Part Number 3: 95AC7932
footprint ASDMB-24.000MHZ-LC-T
pins: 1 EN, 2 GND, 3 OUT, 4 VIN

## B2B-PH-K-S(LF)(SN)
designator J?
CONN HEADER VERT 2POS 2MM; Manufacturer 1: JST; Number of Positions: 2; Connector Type: Male Pin; Current Rating: 2A; Gender: Male; Contact Resistance: 20mR; Insulation Resistance: 1MR; Voltage Rating: 100V; Supplier 1: Digi-Key; Manufacturer Part Number 1: B2B-PH-K-S(LF)(SN); Stock 1: 216199; Pricing 1: 1 = 0.170000, 10 = 0.162000, 100 = 0.100200, 500 = 0.082880, 1000 = 0.072520, 5000 = 0.062160, 10000 = 0.060440 (USD); RoHS: Yes; Mount: Through Hole; Number of Pins: 2; Contact Plating: Tin; Color: Natural; Contact Material: Brass; Housing Material: Polyamide; Housing Color: White; Min Operating Temperature: -25°C; Max Operating Temperature: 85°C; Number of Rows: 1; Packaging: Bulk; Termination: Solder; Fastening Type: Detent; Number of Poles: 2; Number of Contacts: 2; Orientation: Straight; Max Current Rating: 2A; Max Voltage Rating (AC): 100V; Voltage Rating (AC): 100V; Working Voltage: 100V; Max Voltage Rating (DC): 100V; Length: 5.9mm; Height: 9.4mm; Pitch: 2mm; Width: 4.5mm; Contact Mating Length: 0.13inch; Depth: 4.5mm; Lead Pitch: 2mm; Lead Free: Lead Free; REACH SVHC: No SVHC; ComponentLink1URL: https://datasheet.ciiva.com/6747/80560-6747392.pdf?src-supplier=Newark; ComponentLink1Description: https://datasheet.ciiva.com/6747/80560-6747392.pdf?src-supplier=Newark; ComponentLink2URL: https://datasheet.ciiva.com/11746/0900766b8082f551-11746676.pdf?src-supplier=RSComponents; ComponentLink2Description: https://datasheet.ciiva.com/11746/0900766b8082f551-11746676.pdf?src-supplier=RSComponents; ComponentLink3URL: https://datasheet.ciiva.com/8052/80560-8052022.pdf?src-supplier=Element14; ComponentLink3Description: https://datasheet.ciiva.com/8052/80560-8052022.pdf?src-supplier=Element14; ComponentLink4URL: https://datasheet.ciiva.com/712/eph-712442.pdf?src-supplier=Digi-Key; ComponentLink4Description: https://datasheet.ciiva.com/712/eph-712442.pdf?src-supplier=Digi-Key; ComponentLink5URL: https://datasheet.ciiva.com/16422/b2b-ph-k-slfsn-16422715.pdf?src-supplier=Future+Electronics; ComponentLink5Description: https://datasheet.ciiva.com/16422/b2b-ph-k-slfsn-16422715.pdf?src-supplier=Future+Electronics; Supplier Part Number 1: 455-1704-ND
footprint B2B-PH-K-S(LF)(SN) (3.4mm pins, 6mm housing)
pins: P1 GND, P2 PWR

## B2B-PH-SM4-TB(LF)(SN)
designator J?
CONN HEADER SMD 2POS 2MM; Manufacturer 1: JST; Number of Positions: 2; Connector Type: Male Pin; Current Rating: 2A; Gender: Male; Contact Resistance: 20mR; Insulation Resistance: 1GR; Voltage Rating: 100V; RoHS: Yes; Mount: Surface Mount; Contact Plating: Tin; Color: Natural; Contact Material: Copper Alloy; Housing Material: Polyamide; Housing Color: Beige; Min Operating Temperature: -25°C; Max Operating Temperature: 85°C; Number of Rows: 1; Packaging: Tape and Reel; Termination: Solder; Fastening Type: Detent; Number of Poles: 2; Number of Contacts: 2; Orientation: Straight; Max Current Rating: 2A; Max Voltage Rating (AC): 100V; Voltage Rating (AC): 100V; Working Voltage: 100V; Length: 7.95mm; Height: 9.4mm; Pitch: 2mm; Width: 5.5mm; Contact Mating Length: 0.13inch; Depth: 5mm; Lead Pitch: 2mm; Lead Free: Lead Free; REACH SVHC: No SVHC; Flammability Rating: UL94 V-0; ComponentLink1URL: https://datasheet.ciiva.com/11748/0900766b80ddea81-11748001.pdf?src-supplier=RSComponents; ComponentLink1Description: https://datasheet.ciiva.com/11748/0900766b80ddea81-11748001.pdf?src-supplier=RSComponents; ComponentLink2URL: https://datasheet.ciiva.com/16216/b2b-ph-sm4-tblfsn-16216102.pdf?src-supplier=Future+Electronics; ComponentLink2Description: https://datasheet.ciiva.com/16216/b2b-ph-sm4-tblfsn-16216102.pdf?src-supplier=Future+Electronics; ComponentLink3URL: https://datasheet.ciiva.com/8052/80567-8052023.pdf?src-supplier=Element14; ComponentLink3Description: https://datasheet.ciiva.com/8052/80567-8052023.pdf?src-supplier=Element14; ComponentLink4URL: https://datasheet.ciiva.com/712/eph-712504.pdf?src-supplier=Digi-Key; ComponentLink4Description: https://datasheet.ciiva.com/712/eph-712504.pdf?src-supplier=Digi-Key; ComponentLink5URL: https://datasheet.ciiva.com/712/eph-712505.pdf?src-supplier=Digi-Key; ComponentLink5Description: https://datasheet.ciiva.com/712/eph-712505.pdf?src-supplier=Digi-Key; ComponentLink6URL: https://datasheet.ciiva.com/712/eph-712506.pdf?src-supplier=Digi-Key; ComponentLink6Description: https://datasheet.ciiva.com/712/eph-712506.pdf?src-supplier=Digi-Key; Supplier 1: Arrow; Manufacturer Part Number 1: B2B-PH-SM4-TB(LF)(SN); Stock 1: 156000; Pricing 1: 1000=0.23830, 2000=0.22960, 3000=0.21300, 5000=0.20380, 10000=0.18780, 25000=0.18310, 1=0.44520 (USD); Supplier Part Number 1: B2B-PH-SM4-TB (LF)(SN)
footprint *JST_B2B-PH-SM4-TB(LF)(SN) (Footprint not found)
pins: 1 GND, 2 PWR, 3 MGND, 4 MGND

## BAS16XV2T1G
designator D?
DIODE GEN PURP 75V 200MA SOD523; Manufacturer 1: ON Semiconductor; Peak Reverse Current: 1uA; Reverse Recovery Time: 6ns; Power Dissipation: 200mW; Element Configuration: Single; Max Surge Current: 500mA; Forward Voltage: 1.25V; Polarity: Standard; Capacitance: 2pF; Supplier 1: Digi-Key; Manufacturer Part Number 1: BAS16XV2T1G; Stock 1: 246371; Pricing 1: 1=0.13000, 10=0.11600, 100=0.06330, 500=0.03898, 1000=0.02658 (USD); RoHS: Yes; Case/Package: SOD-523-2; Number of Pins: 2; Contact Plating: Tin,Matte; Min Operating Temperature: -55°C; Max Operating Temperature: 150°C; Package Quantity: 1; Forward Current: 200mA; Packaging: Tape and Reel; Average Rectified Current: 200mA; Max Repetitive Reverse Voltage (Vrrm): 75V; Max Reverse Voltage (DC): 75V; Recovery Time: 6ns; Max Reverse Leakage Current: 1uA; Peak Non-Repetitive Surge Current: 500mA; Max Forward Surge Current (Ifsm): 500mA; Output Current: 200mA; Length: 1.3mm; Height: 0.7mm; Width: 0.9mm; Radiation Hardening: No; Lead Free: Lead Free; Halogen Free: Halogen Free; REACH SVHC: No SVHC; ComponentLink1URL: https://datasheet.ciiva.com/915/bas16xv2t1-d-915360.pdf?src-supplier=Digi-Key; ComponentLink1Description: https://datasheet.ciiva.com/915/bas16xv2t1-d-915360.pdf?src-supplier=Digi-Key; ComponentLink2URL: https://datasheet.ciiva.com/4434/bas16xv2t1-d-103464-4434928.pdf?src-supplier=Mouser; ComponentLink2Description: https://datasheet.ciiva.com/4434/bas16xv2t1-d-103464-4434928.pdf?src-supplier=Mouser; ComponentLink3URL: https://datasheet.ciiva.com/22663/1708232-22663646.pdf?src-supplier=Element14; ComponentLink3Description: https://datasheet.ciiva.com/22663/1708232-22663646.pdf?src-supplier=Element14; ComponentLink4URL: https://datasheet.ciiva.com/36525/806485-36525908.pdf?src-supplier=Jameco; ComponentLink4Description: https://datasheet.ciiva.com/36525/806485-36525908.pdf?src-supplier=Jameco; ComponentLink5URL: https://datasheet.ciiva.com/15144/getdatasheetpartid-84399-15144565.pdf?src-supplier=Verical; ComponentLink5Description: https://datasheet.ciiva.com/15144/getdatasheetpartid-84399-15144565.pdf?src-supplier=Verical; ComponentLink6URL: https://datasheet.ciiva.com/16475/bas16xv2t1-d-16475723.pdf?src-supplier=Avnet+Asia; ComponentLink6Description: https://datasheet.ciiva.com/16475/bas16xv2t1-d-16475723.pdf?src-supplier=Avnet+Asia; ComponentLink7URL: https://datasheet.ciiva.com/25930/bas16xv2t1-d-25930683.pdf?src-supplier=Avnet+Europe; ComponentLink7Description: https://datasheet.ciiva.com/25930/bas16xv2t1-d-25930683.pdf?src-supplier=Avnet+Europe; Supplier 2: Digi-Key; Manufacturer 2: ON Semiconductor; Manufacturer Part Number 2: BAS16XV2T1G; Stock 2: 246371; Pricing 2: 1=0.13000, 10=0.11600, 100=0.06330, 500=0.03898, 1000=0.02658 (USD); Supplier Part Number 1: BAS16XV2T1GOSCT-ND; Supplier Part Number 2: BAS16XV2T1GOSDKR-ND
footprint BAS16XV2T1G (SOD, 2-Leads, Body 1.2x0.8mm)
pins: 1 K, 2 A

## BAT54ALT1G
designator D?
DIODE ARRAY SCHOTTKY 30V SOT23-3; Manufacturer 1: ON Semiconductor; Forward Current: 200mA; Element Configuration: Common Anode; Forward Voltage: 800mV; Reverse Recovery Time: 5ns; Max Forward Surge Current (Ifsm): 600mA; Max Power Dissipation: 225mW; Peak Reverse Current: 2uA; Current Rating: 10A; Capacitance: 10pF; Supplier 1: Digi-Key; Manufacturer Part Number 1: BAT54ALT1G; Stock 1: 204103; Pricing 1: 1=0.16000, 10=0.14500, 100=0.07880, 500=0.04848, 1000=0.03306 (USD); RoHS: Yes; Case/Package: SOT-23-3; Number of Pins: 3; Contact Plating: Tin,Matte; Min Operating Temperature: -55°C; Max Operating Temperature: 150°C; Max Repetitive Reverse Voltage (Vrrm): 30V; Package Quantity: 3000; Packaging: Tape and Reel; Average Rectified Current: 200mA; Peak Non-Repetitive Surge Current: 600mA; Max Reverse Voltage (DC): 30V; Max Surge Current: 600mA; Recovery Time: 5ns; Max Reverse Leakage Current: 2uA; Power Dissipation: 225mW; Termination: SMD/SMT; Voltage Rating (DC): 30V; Length: 0.119inch; Height: 0.04inch; Width: 0.055inch; Radiation Hardening: No; Lead Free: Lead Free; Halogen Free: Halogen Free; REACH SVHC: No SVHC; ComponentLink1URL: https://datasheet.ciiva.com/4715/bat54alt1-d-104508-4715041.pdf?src-supplier=Mouser; ComponentLink1Description: https://datasheet.ciiva.com/4715/bat54alt1-d-104508-4715041.pdf?src-supplier=Mouser; ComponentLink2URL: https://datasheet.ciiva.com/1180/bat54alt1-d-1180242.pdf?src-supplier=Element14; ComponentLink2Description: https://datasheet.ciiva.com/1180/bat54alt1-d-1180242.pdf?src-supplier=Element14; ComponentLink3URL: https://datasheet.ciiva.com/1180/1911586-1180243.pdf?src-supplier=Element14; ComponentLink3Description: https://datasheet.ciiva.com/1180/1911586-1180243.pdf?src-supplier=Element14; ComponentLink4URL: https://datasheet.ciiva.com/14560/70100362-14560727.pdf?src-supplier=Allied+Electronics; ComponentLink4Description: https://datasheet.ciiva.com/14560/70100362-14560727.pdf?src-supplier=Allied+Electronics; ComponentLink5URL: https://datasheet.ciiva.com/8299/bat54alt1-d-8299643.pdf?src-supplier=Avnet; ComponentLink5Description: https://datasheet.ciiva.com/8299/bat54alt1-d-8299643.pdf?src-supplier=Avnet; ComponentLink6URL: https://datasheet.ciiva.com/905/bat54alt1-d-905836.pdf?src-supplier=Digi-Key; ComponentLink6Description: https://datasheet.ciiva.com/905/bat54alt1-d-905836.pdf?src-supplier=Digi-Key; ComponentLink7URL: https://datasheet.ciiva.com/905/bat54alt1-d-905837.pdf?src-supplier=Digi-Key; ComponentLink7Description: https://datasheet.ciiva.com/905/bat54alt1-d-905837.pdf?src-supplier=Digi-Key; ComponentLink8URL: https://datasheet.ciiva.com/905/bat54alt1-d-905838.pdf?src-supplier=Digi-Key; ComponentLink8Description: https://datasheet.ciiva.com/905/bat54alt1-d-905838.pdf?src-supplier=Digi-Key; ComponentLink9URL: https://datasheet.ciiva.com/16387/bat54alt1-d-16387375.pdf?src-supplier=Future+Electronics; ComponentLink9Description: https://datasheet.ciiva.com/16387/bat54alt1-d-16387375.pdf?src-supplier=Future+Electronics; ComponentLink10URL: https://datasheet.ciiva.com/25950/bat54alt1-d-25950143.pdf?src-supplier=Avnet+Europe; ComponentLink10Description: https://datasheet.ciiva.com/25950/bat54alt1-d-25950143.pdf?src-supplier=Avnet+Europe; Supplier 2: Mouser; Supplier 3: Newark; Supplier Part Number 1: BAT54ALT1GOSCT-ND; Supplier Part Number 2: 863-BAT54ALT1G; Supplier Part Number 3: 45J0558
footprint BAT54ALT1G (SOT-23 (TO-236))
pins: A, K, K2

## BAV99WT1G
designator D?
DIODE ARRAY GP 100V 215MA SC70-3 Diode Array 1 Pair Series Connection Standard 100V 215mA (DC) Surface Mount SC-70, SOT-323; Manufacturer: On Semiconductor; Manufacturer 1: ON Semiconductor / Fairchild; Configuration: Dual Series; trr Max (ns): 6; Packing: Tape and Reel; IF Max (A): 0.215; Peak Reverse Current: 2.5uA; Max Repetitive Reverse Voltage (Vrrm): 70V; Peak Non-Repetitive Surge Current: 2A; Forward Current: 200mA; Forward Voltage: 1V; Reverse Recovery Time: 6ns; Max Reverse Leakage Current: 2.4uA; Element Configuration: Common Cathode; Power Dissipation: 300mW; ComponentLink1Description: Manufacturer URL; ComponentLink1URL: http://www.onsemi.com/; ComponentLink2Description: Datasheet; PackageDescription: 3-Pin Small Outline Transistor, Body 2 x 1.25 mm, Pitch 0.65 mm; PackageReference: SOT-323-3-419-04; ComponentLink3URL: http://www.onsemi.com/pub_link/Collateral/419-04.PDF; ComponentLink3Description: Package Specification; DatasheetVersion: Rev. 7; RoHS: Yes; ComponentLink2URL: http://www.onsemi.cn/pub_link/Collateral/BAV99WT1-D.PDF; Mounting Technology: Surface Mount; PartNumber: BAV99WT1G; PackageVersion: Rev. N, 11/2008; Supplier 1: Digi-Key; Manufacturer Part Number 1: BAV99WT1G; Stock 1: 463154; Pricing 1: 1=0.15000, 10=0.13700, 100=0.07440, 500=0.04576, 1000=0.03120 (USD); Mount: Surface Mount; Case/Package: SOT-323; Number of Pins: 3; Weight: 0.03g; Contact Plating: Tin,Matte; Min Operating Temperature: -65°C; Max Operating Temperature: 150°C; Packaging: Tape and Reel; Max Surge Current: 2A; Package Quantity: 1; Average Rectified Current: 200mA; Max Reverse Voltage (DC): 70V; Recovery Time: 6ns; Max Forward Surge Current (Ifsm): 2A; Reverse Voltage: 70V; Termination: SMD/SMT; Length: 2.2mm; Height: 0.9mm; Width: 1.35mm; Radiation Hardening: No; Lead Free: Lead Free; REACH SVHC: No SVHC; ComponentLink4URL: https://datasheet.ciiva.com/905/bav99wt1-d-905792.pdf?src-supplier=Digi-Key; ComponentLink4Description: https://datasheet.ciiva.com/905/bav99wt1-d-905792.pdf?src-supplier=Digi-Key; ComponentLink5URL: https://datasheet.ciiva.com/5794/bav99wt1-d-5794016.pdf?src-supplier=Farnell; ComponentLink5Description: https://datasheet.ciiva.com/5794/bav99wt1-d-5794016.pdf?src-supplier=Farnell; ComponentLink6URL: https://datasheet.ciiva.com/25931/bav99wt1g-25931137.pdf?src-supplier=Avnet+Europe; ComponentLink6Description: https://datasheet.ciiva.com/25931/bav99wt1g-25931137.pdf?src-supplier=Avnet+Europe; ComponentLink7URL: https://datasheet.ciiva.com/4452/bav99wt1g-105474-4452790.pdf?src-supplier=Mouser; ComponentLink7Description: https://datasheet.ciiva.com/4452/bav99wt1g-105474-4452790.pdf?src-supplier=Mouser; ComponentLink8URL: https://datasheet.ciiva.com/905/bav99wt1-d-905793.pdf?src-supplier=Digi-Key; ComponentLink8Description: https://datasheet.ciiva.com/905/bav99wt1-d-905793.pdf?src-supplier=Digi-Key; ComponentLink9URL: https://datasheet.ciiva.com/905/bav99wt1-d-905794.pdf?src-supplier=Digi-Key; ComponentLink9Description: https://datasheet.ciiva.com/905/bav99wt1-d-905794.pdf?src-supplier=Digi-Key; ComponentLink10URL: https://datasheet.ciiva.com/1180/bav99wt1-d-1180786.pdf?src-supplier=Element14; ComponentLink10Description: https://datasheet.ciiva.com/1180/bav99wt1-d-1180786.pdf?src-supplier=Element14; ComponentLink11URL: https://datasheet.ciiva.com/8303/bav99wt1g-8303685.pdf?src-supplier=Avnet; ComponentLink11Description: https://datasheet.ciiva.com/8303/bav99wt1g-8303685.pdf?src-supplier=Avnet; ComponentLink12URL: https://datasheet.ciiva.com/46428/1863368-46428599.pdf?src-supplier=Element14; ComponentLink12Description: https://datasheet.ciiva.com/46428/1863368-46428599.pdf?src-supplier=Element14; ComponentLink13URL: https://datasheet.ciiva.com/16742/bav99wt1g-16742585.pdf?src-supplier=Future+Electronics; ComponentLink13Description: https://datasheet.ciiva.com/16742/bav99wt1g-16742585.pdf?src-supplier=Future+Electronics; ComponentLink14URL: https://datasheet.ciiva.com/906/bav99wt1g-906843.pdf?src-supplier=Digi-Key; ComponentLink14Description: https://datasheet.ciiva.com/906/bav99wt1g-906843.pdf?src-supplier=Digi-Key; ComponentLink15URL: https://datasheet.ciiva.com/16475/bav99wt1-d-16475676.pdf?src-supplier=Avnet+Asia; ComponentLink15Description: https://datasheet.ciiva.com/16475/bav99wt1-d-16475676.pdf?src-supplier=Avnet+Asia; Supplier Part Number 1: BAV99WT1GOSCT-ND
footprint SOT-323-3 (SOT23, 3-Leads, Body 2x1.25mm, Pitch 0.65mm)
pins: 1 A, 2 K, 3 K/A

## BK1608HS800-T
designator FB?, comment 80R/100MHz
FERRITE BEAD 80 OHM 0603 1LN; Manufacturer 1: Taiyo Yuden; Manufacturer Part Number 1: BK1608HS800-T; Impedance: 80R; Tolerance: 25%; Max DC Current: 600mA; DC Resistance (DCR): 100mR; Test Frequency: 100MHz; Number of Lines: 1; Shielding: Shielded; Supplier 1: Digi-Key; Stock 1: 6285; Pricing 1: 1=0.10000, 10=0.07900, 25=0.07200, 50=0.06480, 100=0.04760, 250=0.03460, 500=0.03170, 1000=0.02738 (USD); RoHS: Yes; Mount: Surface Mount; Case/Package: 0603; Number of Pins: 2; Core Material: Ferrite; Case Code (Metric): 1608; Case Code (Imperial): 0603; Min Operating Temperature: -55°C; Max Operating Temperature: 125°C; Package Quantity: 1; Packaging: Tape and Reel; Termination: SMD/SMT; Max Current Rating: 600mA; Frequency: 100MHz; Length: 0.063inch; Height: 0.037inch; Width: 0.8mm; Depth: 0.95mm; REACH SVHC: Unknown; Lead Free: Lead Free; Halogen Free: Halogen Free; ComponentLink1URL: https://datasheet.ciiva.com/1011/bk1608hs800-t-ss-1011885.pdf?src-supplier=Digi-Key; ComponentLink1Description: https://datasheet.ciiva.com/1011/bk1608hs800-t-ss-1011885.pdf?src-supplier=Digi-Key; ComponentLink2URL: https://datasheet.ciiva.com/1011/mlci07-e-1011886.pdf?src-supplier=Digi-Key; ComponentLink2Description: https://datasheet.ciiva.com/1011/mlci07-e-1011886.pdf?src-supplier=Digi-Key; ComponentLink3URL: https://datasheet.ciiva.com/1011/mlci07-e-1011887.pdf?src-supplier=Digi-Key; ComponentLink3Description: https://datasheet.ciiva.com/1011/mlci07-e-1011887.pdf?src-supplier=Digi-Key; Supplier 2: Mouser; Supplier 3: Arrow; Supplier Part Number 1: 587-1875-1-ND; Supplier Part Number 2: 963-BK1608HS800-T; Supplier Part Number 3: BK1608HS800-T
footprint BK1608HS800-T_L (Chip Inductor, 2-Leads, Body 1.60x0.80mm, IPC High Density)
footprint BK1608HS800-T_M (Chip Inductor, 2-Leads, Body 1.60x0.80mm, IPC Low Density)
footprint BK1608HS800-T_N (Chip Inductor, 2-Leads, Body 1.60x0.80mm, IPC Medium Density)
pins: 1, 2